# EAGLE library part NODEMCU (library Co.-ESP)
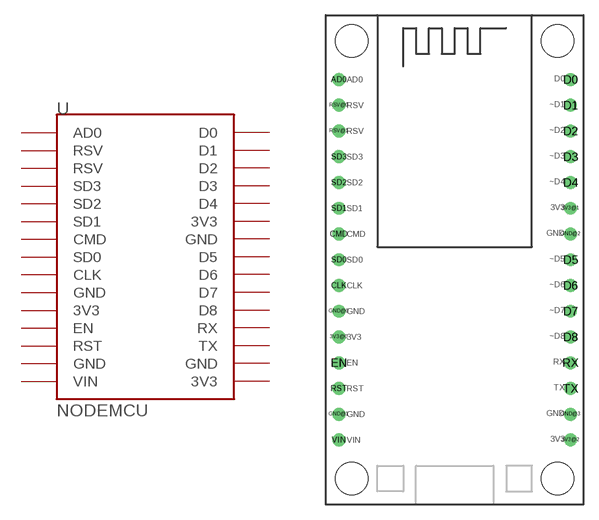
[diagram p15: symbol with the pads of NODEMCU; footprint NODEMCU]

Designator prefix -

## NODEMCU  [NODEMCU]
3V3@0  3V3
3V3@1  3V3
3V3@2  3V3
AD0  AD0
CLK  CLK
CMD  CMD
D0  D0
D1  D1
D2  D2
D3  D3
D4  D4
D5  D5
D6  D6
D7  D7
D8  D8
EN  EN
GND@0  GND
GND@1  GND
GND@2  GND
GND@3  GND
RST  RST
RSV@0  RSV
RSV@1  RSV
RX  RX
SD0  SD0
SD1  SD1
SD2  SD2
SD3  SD3
TX  TX
VIN  VIN

## Footprint NODEMCU (pad centres in mm)
drill 0.7 pad 1.27: 3V3@0 -11.43,-15.24; 3V3@1 11.43,-2.54; 3V3@2 11.43,-25.4; AD0 -11.43,10.16; CLK -11.43,-10.16; CMD -11.43,-5.08; D0 11.43,10.16; D1 11.43,7.62; D2 11.43,5.08; D3 11.43,2.54; D4 11.43,0; D5 11.43,-7.62; D6 11.43,-10.16; D7 11.43,-12.7; D8 11.43,-15.24; EN -11.43,-17.78; GND@0 -11.43,-12.7; GND@1 -11.43,-22.86; GND@2 11.43,-5.08; GND@3 11.43,-22.86; RST -11.43,-20.32; RSV@0 -11.43,7.62; RSV@1 -11.43,5.08; RX 11.43,-17.78; SD0 -11.43,-7.62; SD1 -11.43,-2.54; SD2 -11.43,0; SD3 -11.43,2.54; TX 11.43,-20.32; VIN -11.43,-25.4
hole 3.2 at -10.16,13.97
hole 3.2 at 10.16,13.97
hole 3.2 at 10.16,-29.21
hole 3.2 at -10.16,-29.21